# EAGLE library part LM324 (library #PaJa_30_scr)
OZ - 4x, bipolární
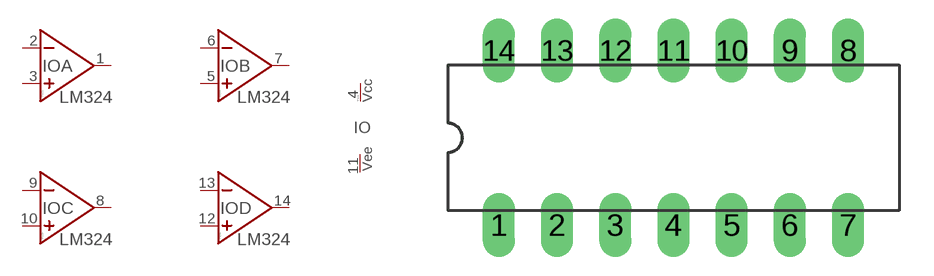
[diagram p60: symbol with the pads of DIL14; footprint DIL14]

Designator prefix IO; gates A=OZ C=OZ B=OZ D=OZ POWER=POWER_SY

## LM324  [DIL14]
1  A:VYSTUP  out
2  A:IN-  in
3  A:NEIN+  in
4  POWER:VCC  pwr
5  B:NEIN+  in
6  B:IN-  in
7  B:VYSTUP  out
8  C:VYSTUP  out
9  C:IN-  in
10  C:NEIN+  in
11  POWER:VEE  pwr
12  D:NEIN+  in
13  D:IN-  in
14  D:VYSTUP  out

## Footprint DIL14 (pad centres in mm)
drill 0.813 pad 1.4 long: 1 -7.62,-3.81; 2 -5.08,-3.81; 3 -2.54,-3.81; 4 0,-3.81; 5 2.54,-3.81; 6 5.08,-3.81; 7 7.62,-3.81; 8 7.62,3.81; 9 5.08,3.81; 10 2.54,3.81; 11 0,3.81; 12 -2.54,3.81; 13 -5.08,3.81; 14 -7.62,3.81